# EAGLE library part F31L-1A7H1-11030 (library all-connectors)
F31L-1A7H1-11030 Amphenol Flex Connector, 0.50mm Pitch, Height 2.55mm, Right angle, Flip type, ZIF, 30 position , With MYLAR
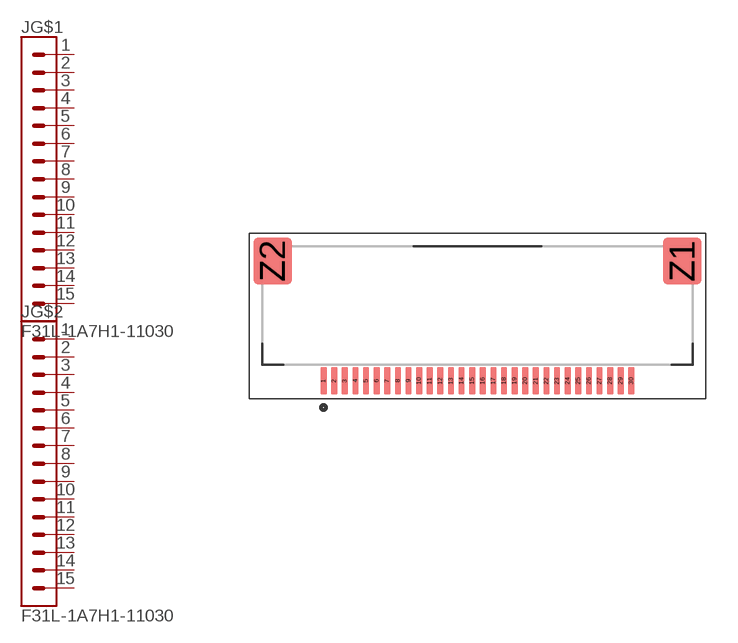
[diagram p28: symbol with the pads of FFC-30_0.50MM; footprint FFC-30_0.50MM]

Designator prefix J; gates G$1=CON15-1 G$2=CON15-1

## F31L-1A7H1-11030  [FFC-30_0.50MM]
1  G$1:1  pas
2  G$1:2  pas
3  G$1:3  pas
4  G$1:4  pas
5  G$1:5  pas
6  G$1:6  pas
7  G$1:7  pas
8  G$1:8  pas
9  G$1:9  pas
10  G$1:10  pas
11  G$1:11  pas
12  G$1:12  pas
13  G$1:13  pas
14  G$1:14  pas
15  G$1:15  pas
16  G$2:1  pas
17  G$2:2  pas
18  G$2:3  pas
19  G$2:4  pas
20  G$2:5  pas
21  G$2:6  pas
22  G$2:7  pas
23  G$2:8  pas
24  G$2:9  pas
25  G$2:10  pas
26  G$2:11  pas
27  G$2:12  pas
28  G$2:13  pas
29  G$2:14  pas
30  G$2:15  pas

## Footprint FFC-30_0.50MM (pad centres in mm)
smd 0.3 x 1.3: 1 -7.25,-1.4; 2 -6.75,-1.4; 3 -6.25,-1.4; 4 -5.75,-1.4; 5 -5.25,-1.4; 6 -4.75,-1.4; 7 -4.25,-1.4; 8 -3.75,-1.4; 9 -3.25,-1.4; 10 -2.75,-1.4; 11 -2.25,-1.4; 12 -1.75,-1.4; 13 -1.25,-1.4; 14 -0.75,-1.4; 15 -0.25,-1.4; 16 0.25,-1.4; 17 0.75,-1.4; 18 1.25,-1.4; 19 1.75,-1.4; 20 2.25,-1.4; 21 2.75,-1.4; 22 3.25,-1.4; 23 3.75,-1.4; 24 4.25,-1.4; 25 4.75,-1.4; 26 5.25,-1.4; 27 5.75,-1.4; 28 6.25,-1.4; 29 6.75,-1.4; 30 7.25,-1.4
smd 1.8 x 2.2: Z1 9.65,4.25; Z2 -9.65,4.25